# Altium schematic symbol library SW_SPDT.Schlib: 1 symbol
Pins are listed as number, name and electrical type; pins without a type are passive.

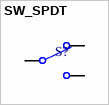
[diagram p0: symbol SW_SPDT]

## SW_SPDT
designator S?
pins: COM1 COMMON, NC1 NC, NO1 NO